# Altium footprint library ElectricCanary_FXCore-Module.PcbLib: 1 footprints
Each footprint in its own frame and in the unit in brackets; x right, y up, seen from the top. Pads: shape width x height; smd on the part's side, far side on the other; paste and mask are expansions set on the pad; w line width, h text height; cw(c..) or ccw(c..) is an arc to the next point about the centre after c.
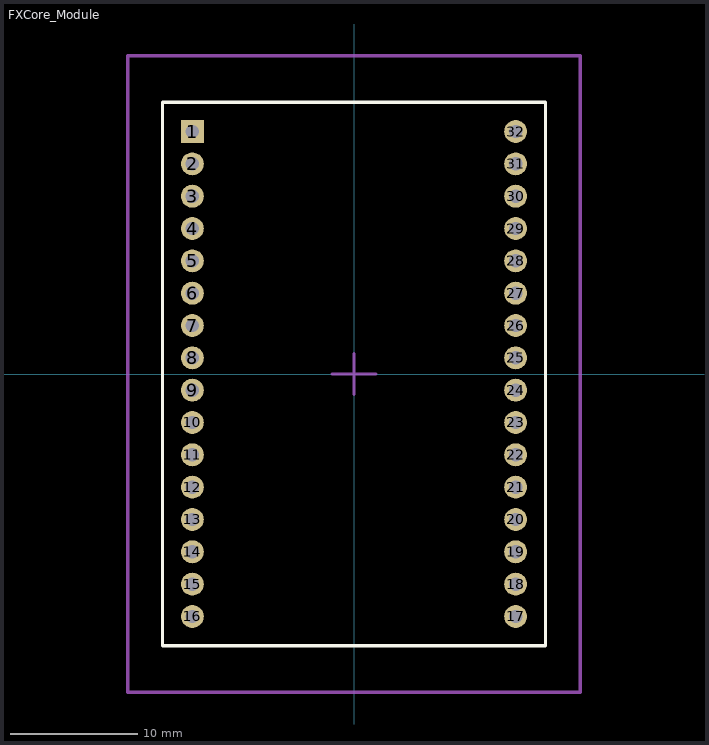
[diagram p0: the footprint, top view; thin cyan lines are the x and y axes]

## FXCore_Module [mm]
pads (32):
  rect 1.8x1.8 hole 1.05: 1(-12.7,19.05)
  round 1.8 hole 1.05: 2(-12.7,16.51) 3(-12.7,13.97) 4(-12.7,11.43) 5(-12.7,8.89) 6(-12.7,6.35) 7(-12.7,3.81) 8(-12.7,1.27) 9(-12.7,-1.27) 10(-12.7,-3.81) 11(-12.7,-6.35) 12(-12.7,-8.89) 13(-12.7,-11.43) 14(-12.7,-13.97) 15(-12.7,-16.51) 16(-12.7,-19.05) 17(12.7,-19.05) 18(12.7,-16.51) 19(12.7,-13.97) 20(12.7,-11.43) 21(12.7,-8.89) 22(12.7,-6.35) 23(12.7,-3.81) 24(12.7,-1.27) 25(12.7,1.27) 26(12.7,3.81) 27(12.7,6.35) 28(12.7,8.89) 29(12.7,11.43) 30(12.7,13.97) 31(12.7,16.51) 32(12.7,19.05)
Top Overlay:
  lines w0.254: -15.04,-21.359 15.04,-21.359 15.04,21.359 -15.04,21.359 -15.04,-21.359
Courtyard Top:
  lines w0.254: -1.7,0 1.7,0 ; 0,-1.6 0,1.6 ; -17.78,-25 -17.78,25 17.78,25 17.78,-25 -17.78,-25
3D body "FXCore_Module.step": height 8.2, standoff -6.24, extent -15.023,-21.337 15.077,21.363